# Altium footprint library SparkFun-DiscreteSemi.PCBLIB: 40 footprints (part 1 of 3)
Each footprint in its own frame and in the unit in brackets; x right, y up, seen from the top. Pads: shape width x height; smd on the part's side, far side on the other; paste and mask are expansions set on the pad; w line width, h text height; cw(c..) or ccw(c..) is an arc to the next point about the centre after c.
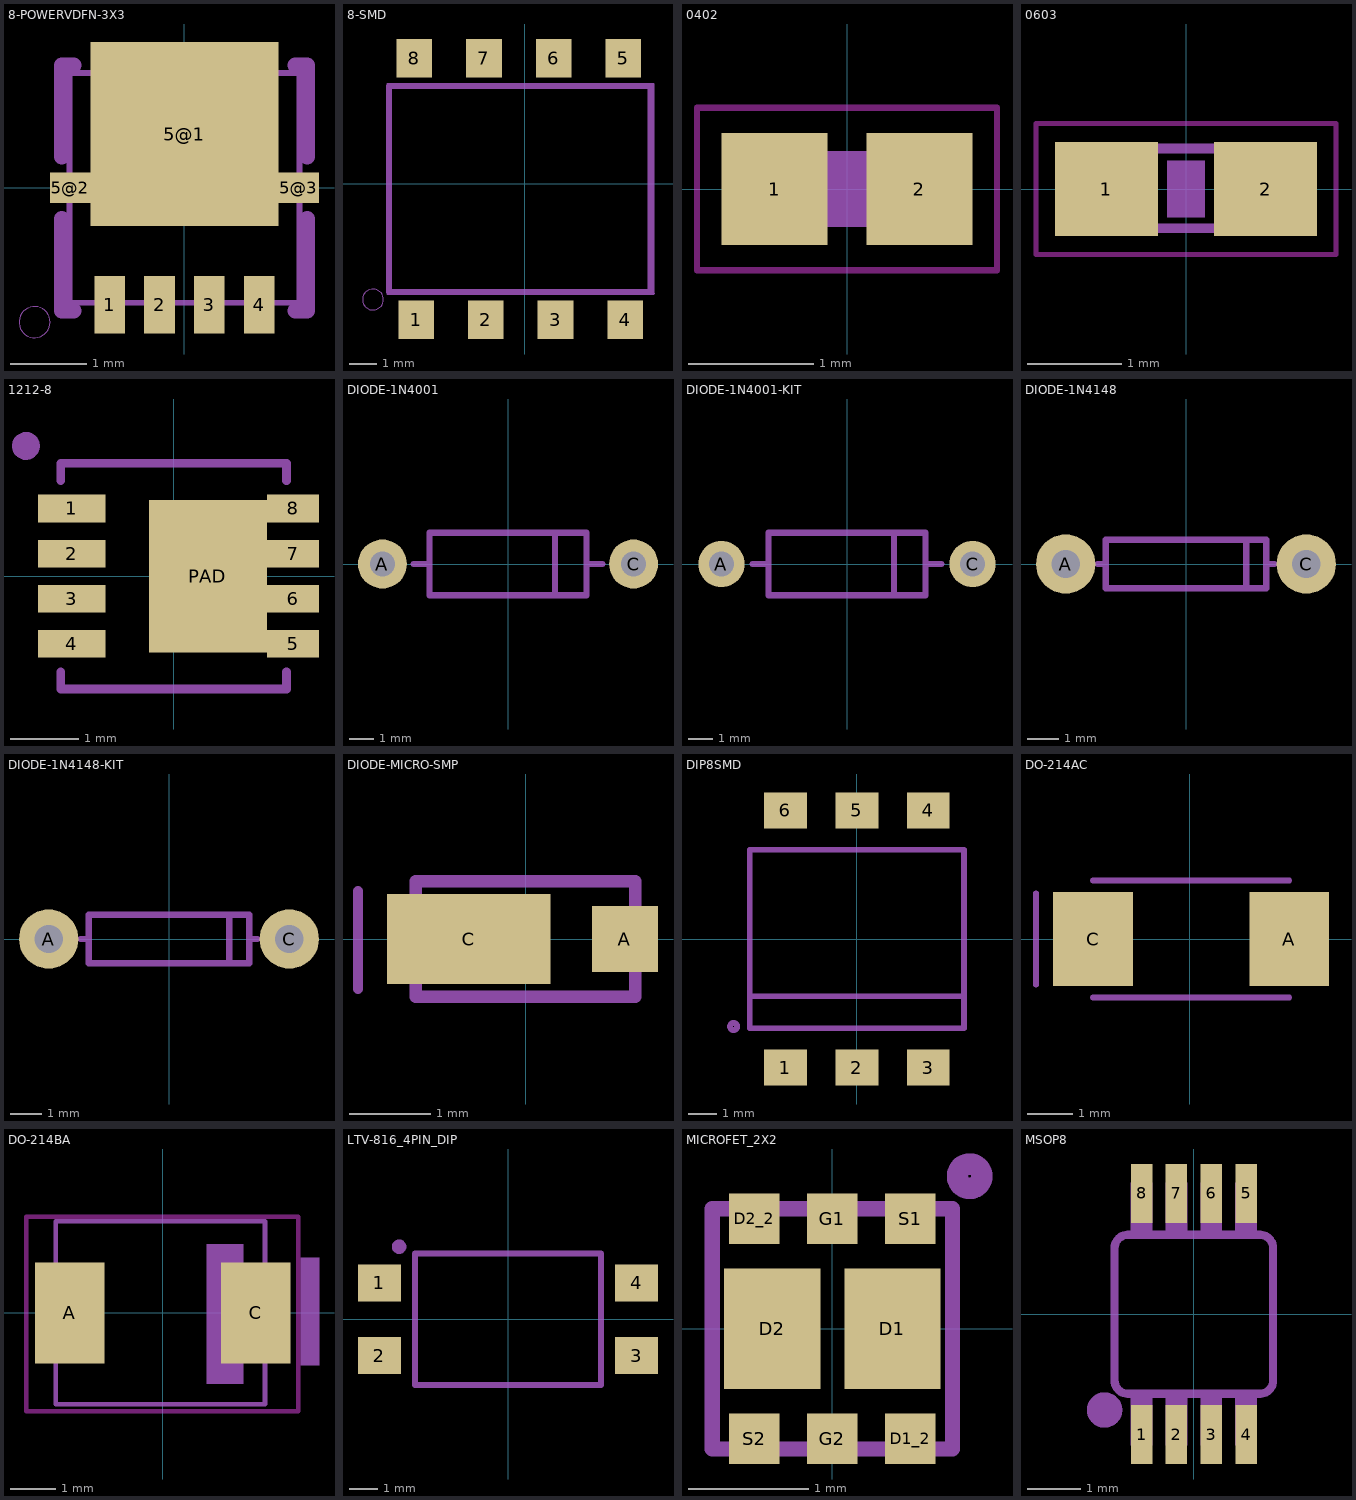
[diagram p0: the footprints below, top view; thin cyan lines are the x and y axes]

## 8-POWERVDFN-3X3 [mm]
pads (7):
  rect 0.4x0.75 smd: 1(-0.975,-1.525) 2(-0.325,-1.525) 3(0.325,-1.525) 4(0.975,-1.525)
  rect 2.45x2.4 smd: 5@1(0,0.7)
  rect 0.53x0.4 smd: 5@2(-1.49,0) 5@3(1.49,0)
tDocu:
  region: 1.125,-1.25 1.125,-1.65 0.825,-1.65 0.825,-1.25
  region: 0.475,-1.25 0.475,-1.65 0.175,-1.65 0.175,-1.25
  region: -0.175,-1.25 -0.175,-1.65 -0.475,-1.65 -0.475,-1.25
  region: -0.825,-1.25 -0.825,-1.65 -1.125,-1.65 -1.125,-1.25
  region: -1.125,1.25 -1.125,1.65 -0.825,1.65 -0.825,1.25
  region: -0.475,1.25 -0.475,1.65 -0.175,1.65 -0.175,1.25
  region: 0.175,1.25 0.175,1.65 0.475,1.65 0.475,1.25
  region: 0.825,1.25 0.825,1.65 1.125,1.65 1.125,1.25
  region: 1.125,1.25 1.125,-0.45 -1.125,-0.45 -1.125,1.25
  region: 1.65,0.15 1.65,-0.15 1.125,-0.15 1.125,0.15
  region: -1.65,-0.15 -1.65,0.15 -1.125,0.15 -1.125,-0.15
  lines w0.076: -1.5,-1.5 1.5,-1.5 1.5,1.5 -1.5,1.5 -1.5,-1.5
tPlace:
  circle w0: c-1.956,-1.753 r0.203
  lines w0.203: -1.602,-0.405 -1.602,-1.602 -1.446,-1.602 ; -1.602,0.405 -1.602,1.602 -1.446,1.602 ; 1.446,-1.602 1.602,-1.602 1.602,-0.405 ; 1.446,1.602 1.602,1.602 1.602,0.405

## 8-SMD [mil]
pads (8):
  rect 51.18x55.12 smd: 1(-155.91,-195.28) 2(-55.91,-195.28) 3(44.09,-195.28) 4(144.09,-195.28) 5(141.34,180.32) 6(41.34,180.32) 7(-58.66,180.32) 8(-158.66,180.32)
tDocu:
  lines w3.94: 184.25,-156.69 184.25,142.52 -196.85,142.52 -196.85,-157.48 184.65,-157.48
tPlace:
  circle w0: c-218.03,-166.18 r15
  lines w8: -195,-155 180,-155 180,140 -195,140 -195,-155

## 0402 [mil]
pads (2):
  rect 33.46x35.43 smd: 1(-22.83,0) 2(22.83,0)
Top keep-out:
  lines w2: -47.24,-25.59 47.24,-25.59 47.24,25.59 -47.24,25.59 -47.24,-25.59
tDocu:
  region: -21.81,-12 -21.81,12 -10,12 -10,-12
  region: 10.19,-12 10.19,12 22,12 22,-12
  lines w6: -10.65,-9 10.65,-9 ; -10.65,9 10.65,9
tGlue:
  region: -7.87,-11.81 -7.87,11.81 7.87,11.81 7.87,-11.81

## 0603 [mm]
pads (2):
  rect 1.1x1 smd: 1(-0.85,0) 2(0.85,0)
Top keep-out:
  lines w0.051: -1.6,-0.7 1.6,-0.7 1.6,0.7 -1.6,0.7 -1.6,-0.7
tDocu:
  region: -0.838,-0.47 -0.838,0.48 -0.338,0.48 -0.338,-0.47
  region: 0.33,-0.47 0.33,0.48 0.83,0.48 0.83,-0.47
  lines w0.102: -0.356,-0.419 0.356,-0.419 ; -0.356,0.432 0.356,0.432
tGlue:
  region: -0.2,-0.3 -0.2,0.3 0.2,0.3 0.2,-0.3

## 1212-8 [mil]
pads (9):
  rect 38.98x15.94 smd: 1(-58.66,38.98) 2(-58.66,12.99) 3(-58.66,-12.99) 4(-58.66,-38.98)
  rect 29.92x15.94 smd: 5(68.8,-38.98) 6(68.8,-12.99) 7(68.8,12.99) 8(68.8,38.98)
  rect 67.91x87.99 smd: PAD(19.78,0)
tPlace:
  circle w8: c-85,75 r4
  lines w5: -65,-65 -65,-55 ; -65,55 -65,65 ; -64.96,-64.96 64.96,-64.96 ; -64.96,64.96 64.96,64.96 ; 65,-65 65,-55 ; 65,55 65,65

## DIODE-1N4001 [mil]
pads (2):
  round 78 hole 39.37: A(-200,0) C(200,0)
tPlace:
  lines w10: -150,0 -125,0 ; 150,0 125,0 ; -125,0 -125,50 75,50 ; -125,0 -125,-50 75,-50 ; 75,-50 125,-50 125,0 ; 75,-50 75,50 ; 75,50 125,50 125,0

## DIODE-1N4001-KIT [mil]
pads (2):
  round 74 hole 40: A(-200,0) C(200,0)
Top Solder:
  circle w0: c-200,0 r20
  circle w0: c200,0 r20
Bottom Solder:
  circle w0: c-200,0 r39
  circle w0: c200,0 r39
tPlace:
  lines w10: -150,0 -125,0 ; 150,0 125,0 ; -125,0 -125,50 75,50 ; -125,0 -125,-50 75,-50 ; 75,-50 125,-50 125,0 ; 75,-50 75,50 ; 75,50 125,50 125,0

## DIODE-1N4148 [mil]
pads (2):
  round 74 hole 35.43: A(-150,0) C(150,0)
tPlace:
  lines w8: -110,0 -100,0 ; 75,-25 75,25 ; 110,0 100,0 ; -100,0 -100,-30 100,-30 100,0 ; -100,0 -100,30 100,30 100,0

## DIODE-1N4148-KIT [mil]
pads (2):
  round 74 hole 35.43: A(-150,0) C(150,0)
Top Solder:
  circle w0: c-150,0 r18
  circle w0: c-150,0 r18
  circle w0: c150,0 r18
Bottom Solder:
  circle w0: c-150,0 r37
  circle w0: c150,0 r37
tPlace:
  lines w8: -110,0 -100,0 ; 75,-25 75,25 ; 110,0 100,0 ; -100,0 -100,-30 100,-30 100,0 ; -100,0 -100,30 100,30 100,0

## DIODE-MICRO-SMP [mil]
pads (2):
  rect 32x32 smd: A(48,0)
  rect 79x43.4 smd: C(-27.5,0)
tDocu:
  lines w6: -53,-18 -53,18 ; 53,-15 53,15 ; -53,-28 53,-28 53,28 -53,28 -53,-28
tPlace:
  lines w5: -81,-24 -81,23

## DIP8SMD [mil]
pads (6):
  rect 60x50 smd: 1(-100,-180) 2(0,-180) 3(100,-180) 4(100,180) 5(0,180) 6(-100,180)
tPlace:
  circle w8: c-172.5,-122.5 r5
  lines w8: -150,-80 -150,-125 150,-125 150,-80 ; -150,-80 -150,125 150,125 150,-80 ; -150,-80 150,-80

## DO-214AC [mil]
pads (2):
  rect 70x82 smd: A(87,0) C(-85,0)
tPlace:
  lines w5: -135,-40 -135,40 ; -85,-51.25 87,-51.25 ; -85,51.25 87,51.25

## DO-214BA [mil]
pads (2):
  rect 59.84x87.01 smd: A(-80,0) C(80.24,0)
Top keep-out:
  lines w3.94: -117.4,-84.65 -117.4,82.68 116.85,82.68 116.85,-84.65 -117.4,-84.65
tDocu:
  region: 38.11,-61.02 38.11,59.06 69.61,59.06 69.61,-61.02
  lines w3.94: -91.81,-78.74 88.11,-78.74 88.11,78.74 -91.81,78.74 -91.81,-78.74
tPlace:
  region: 118.82,-45.28 118.82,47.24 134.57,47.24 134.57,-45.28

## LTV-816_4PIN_DIP [mil]
pads (4):
  rect 59.06x51.18 smd: 1(-177.17,50) 2(-177.17,-50) 3(177.17,-50) 4(177.17,50)
tPlace:
  circle w10: c-150,100 r5
  lines w8: -128,-90.5 -128,90.5 128,90.5 128,-90.5 -128,-90.5

## MICROFET_2X2 [mm]
pads (8):
  rect 0.8x1 smd: D1(0.5,0) D2(-0.5,0)
  rect 0.42x0.42 smd: D1_2(0.65,-0.915) D2_2(-0.65,0.915) G1(0,0.915) G2(0,-0.915) S1(0.65,0.915) S2(-0.65,-0.915)
tDocu:
  lines w0.127: -1,-1 1,-1 1,1 -1,1 -1,-1
tPlace:
  circle w0.178: c1.143,1.27 r0.102

## MSOP8 [mil]
pads (8):
  rect 15.75x43.31 smd: 1(-38.39,-88.58) 2(-12.8,-88.58) 3(12.8,-88.58) 4(38.39,-88.58) 5(38.39,88.58) 6(12.8,88.58) 7(-12.8,88.58) 8(-38.39,88.58)
tDocu:
  region: -46.26,-96.46 -46.26,-61.02 -30.51,-61.02 -30.51,-96.46
  region: -20.67,-96.46 -20.67,-61.02 -4.92,-61.02 -4.92,-96.46
  region: 4.92,-96.46 4.92,-61.02 20.67,-61.02 20.67,-96.46
  region: 30.51,-96.46 30.51,-61.02 46.26,-61.02 46.26,-96.46
  region: 30.51,61.02 30.51,96.46 46.26,96.46 46.26,61.02
  region: 4.92,61.02 4.92,96.46 20.67,96.46 20.67,61.02
  region: -20.67,61.02 -20.67,96.46 -4.92,96.46 -4.92,61.02
  region: -46.26,61.02 -46.26,96.46 -30.51,96.46 -30.51,61.02
tPlace:
  circle w14: c-65.59,-70.59 r6
  lines w6: -58.27,-48.82 ccw(c-48.43,-48.82) -48.43,-58.66 ; -58.27,-48.43 -58.27,48.43 cw(c-48.43,48.43) -48.43,58.27 ; -48.03,-58.66 48.82,-58.66 ; -48.03,58.27 48.82,58.27 ; 48.43,-58.66 ccw(c48.43,-48.82) 58.27,-48.82 58.27,48.43 ccw(c48.43,48.43) 48.43,58.27